# EAGLE library part STM32F042F (library lichtenstein_onion)
STM32F042Fx – Mainstream ARM Cortex-M0 USB line MCU with 32 Kbytes Flash, 48 MHz CPU, USB, CAN and CEC functions Datasheet <https://www.st.com/resource/en/datasheet/stm32f042f6.pdf> STM32F042x6 <https://www.st.com/content/st_com/en/products/microcontrollers/stm32-32-bit-arm-cortex-mcus/stm32-mainstream-mcus/stm32f0-series/stm32f0x2/stm32f042f6.html>: 32K flash, 6K SRAM STM32F042x4 <https://www.st.com/content/st_com/en/products/microcontrollers/stm32-32-bit-arm-cortex-mcus/stm32-mainstream-mcus/stm32f0-series/stm32f0x2/stm32f042f4.html>: 16K flash, 6K SRAM
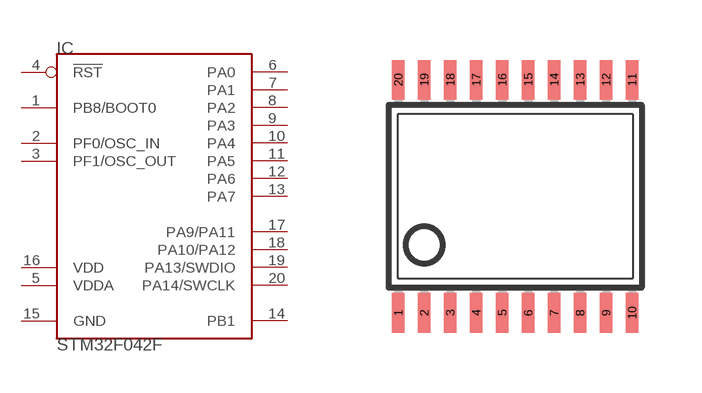
[diagram p17: symbol with the pads of TSSOP20; footprint TSSOP20]

Designator prefix IC

## STM32F042F (MOUSER: 511-STM32F042F6P6)  [TSSOP20]
1  PB8/BOOT0
2  PF0/OSC_IN
3  PF1/OSC_OUT
4  !RST  in
5  VDDA  pwr
6  PA0
7  PA1
8  PA2
9  PA3
10  PA4
11  PA5
12  PA6
13  PA7
14  PB1
15  GND  pwr
16  VDD  pwr
17  PA9/PA11
18  PA10/PA12
19  PA13/SWDIO
20  PA14/SWCLK

## Footprint TSSOP20 (pad centres in mm)
Thin Shrink Small Outline Plastic 20 MAX3223-MAX3243.pdf
smd 0.305 x 0.991: 1 -2.925,-2.918; 2 -2.275,-2.918; 3 -1.625,-2.918; 4 -0.975,-2.918; 5 -0.325,-2.918; 6 0.325,-2.918; 7 0.975,-2.918; 8 1.625,-2.918; 9 2.275,-2.918; 10 2.925,-2.918; 11 2.925,2.918; 12 2.275,2.918; 13 1.625,2.918; 14 0.975,2.918; 15 0.325,2.918; 16 -0.325,2.918; 17 -0.975,2.918; 18 -1.625,2.918; 19 -2.275,2.918; 20 -2.925,2.918